# Altium footprint library ESP8266Lib.PcbLib: 3 footprints
Each footprint in its own frame and in the unit in brackets; x right, y up, seen from the top. Pads: shape width x height; smd on the part's side, far side on the other; paste and mask are expansions set on the pad; w line width, h text height; cw(c..) or ccw(c..) is an arc to the next point about the centre after c.
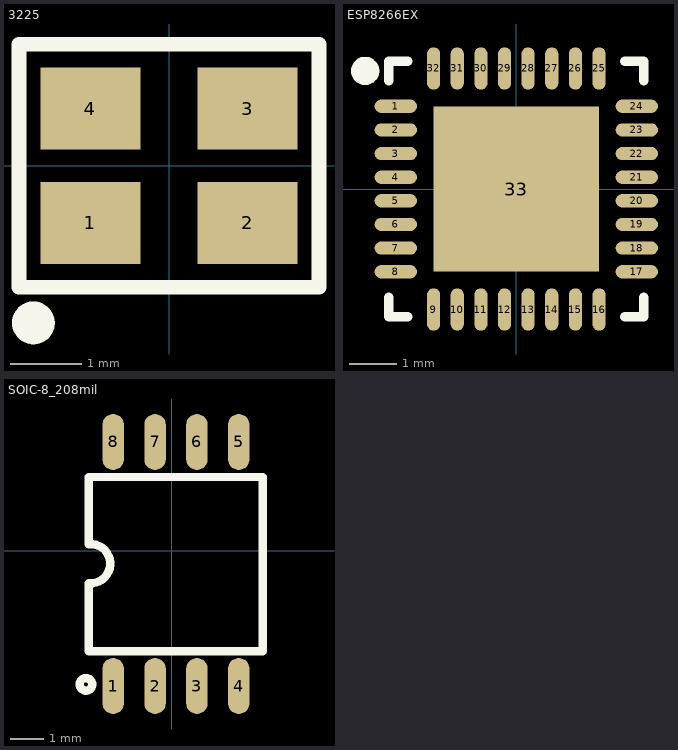
[diagram p0: the footprints below, top view; thin cyan lines are the x and y axes]

## 3225 [mm]
pads (4):
  rect 1.4x1.15 smd: 1(-1.1,-0.8) 2(1.1,-0.8) 3(1.1,0.8) 4(-1.1,0.8)
Top Overlay:
  lines w0.203: -2.1,-1.7 2.1,-1.7 2.1,1.7 -2.1,1.7 -2.1,-1.7
  lines w0.3: -1.9,-2.05 ccw(c-1.899,-2.2) -1.897,-2.05

## ESP8266EX [mm]
pads (33):
  oval 0.896x0.28 smd: 1(-2.55,1.75) 2(-2.55,1.25) 3(-2.55,0.749) 4(-2.55,0.249) 5(-2.55,-0.249) 6(-2.55,-0.749) 7(-2.55,-1.25) 8(-2.55,-1.75) 17(2.55,-1.75) 18(2.55,-1.25) 19(2.55,-0.749) 20(2.55,-0.249) 21(2.55,0.249) 22(2.55,0.749) 23(2.55,1.25) 24(2.55,1.75)
  oval 0.28x0.896 smd: 9(-1.75,-2.55) 10(-1.25,-2.55) 11(-0.749,-2.55) 12(-0.249,-2.55) 13(0.249,-2.55) 14(0.749,-2.55) 15(1.25,-2.55) 16(1.75,-2.55) 25(1.75,2.55) 26(1.25,2.55) 27(0.749,2.55) 28(0.249,2.55) 29(-0.249,2.55) 30(-0.749,2.55) 31(-1.25,2.55) 32(-1.75,2.55)
  rect 3.5x3.5 smd: 33(0,0)
Top Overlay:
  lines w0.2: -2.7,-2.295 -2.7,-2.7 -2.295,-2.7 ; -2.7,2.295 -2.7,2.7 -2.295,2.7 ; 2.295,-2.7 2.7,-2.7 2.7,-2.295 ; 2.295,2.7 2.7,2.7 2.7,2.295
  lines w0.3: -3.051,2.497 cw(c-3.201,2.498) -3.051,2.499
Top Paste:
  region: -0.25,-0.25 -0.25,0.25 0.25,0.25 0.25,-0.25
  region: -0.25,-1.05 -0.25,-0.55 0.25,-0.55 0.25,-1.05
  region: -1.05,-0.25 -1.05,0.25 -0.55,0.25 -0.55,-0.25
  region: -1.05,-1.05 -1.05,-0.55 -0.55,-0.55 -0.55,-1.05
  region: -1.05,0.55 -1.05,1.05 -0.55,1.05 -0.55,0.55
  region: -0.25,0.55 -0.25,1.05 0.25,1.05 0.25,0.55
  region: 0.55,0.55 0.55,1.05 1.05,1.05 1.05,0.55
  region: 0.55,-0.25 0.55,0.25 1.05,0.25 1.05,-0.25
  region: 0.55,-1.05 0.55,-0.55 1.05,-0.55 1.05,-1.05
Mechanical 15:
  lines w0.003: -0.202,0.095 -0.151,0.146
3D body "QFN32 5X5.step": height 0.9, standoff -0.03, extent -2.5,-2.5 2.501,2.5

## SOIC-8_208mil [mm]
pads (8):
  oval 0.65x1.698 smd: 1(-1.779,-4.104) 2(-0.509,-4.104) 3(0.761,-4.104) 4(2.031,-4.104) 5(2.031,3.296) 6(0.761,3.296) 7(-0.509,3.296) 8(-1.779,3.296)
Top Overlay:
  circle w0.254: c-2.603,-4.054 r0.191
  lines w0.254: -2.514,-0.984 -2.514,-2.404 -2.514,-3.054 2.756,-3.054 2.756,2.236 -2.514,2.236 -2.514,1.596 -2.514,0.196 ; -2.504,-0.984 ccw(c-2.459,-0.394) -2.504,0.196